# EAGLE library part SST12LP14A (library custom)
RF Power Amplifier 2.4GHz 28dBm P1dB 29dB Gain 3-3.6V 230mA Power Detector
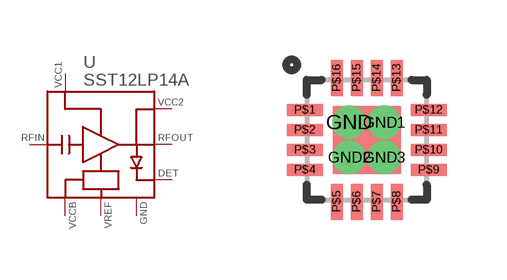
[diagram p75: symbol with the pads of 16-VQFN; footprint 16-VQFN]

Designator prefix U

## SST12LP14A  [16-VQFN]
GND  GND
P$2  RFIN
P$3  RFIN
P$5  VCCB
P$6  VREF
P$7  VREF
P$9  DET
P$10  RFOUT
P$11  RFOUT
P$12  VCC2
P$16  VCC1

## Footprint 16-VQFN (pad centres in mm)
drill 0.33: GND -0.438,0.438; GND1 0.438,0.438; GND2 -0.438,-0.438; GND3 0.438,-0.438
smd 0.9 x 0.3: P$1 -1.55,0.75; P$2 -1.55,0.25; P$3 -1.55,-0.25; P$4 -1.55,-0.75; P$9 1.55,-0.75; P$10 1.55,-0.25; P$11 1.55,0.25; P$12 1.55,0.75
smd 0.3 x 0.9: P$5 -0.75,-1.55; P$6 -0.25,-1.55; P$7 0.25,-1.55; P$8 0.75,-1.55; P$13 0.75,1.55; P$14 0.25,1.55; P$15 -0.25,1.55; P$16 -0.75,1.55